# EAGLE library part R-EU-4 (library tecsmith_keyboards)
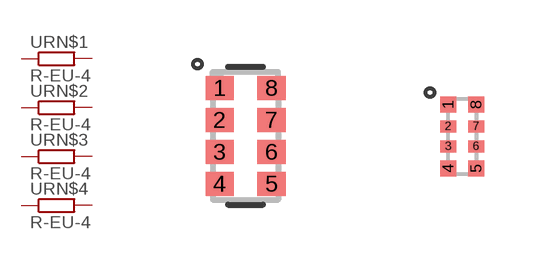
[diagram p7: symbol with the pads of R0603X4; footprints R0603X4, R0402X4]

Designator prefix -; gates RN$1=R-EU RN$2=R-EU RN$3=R-EU RN$4=R-EU

## R-EU-40603  [R0603X4]
1  RN$1:1  pas
2  RN$2:1  pas
3  RN$3:1  pas
4  RN$4:1  pas
5  RN$4:2  pas
6  RN$3:2  pas
7  RN$2:2  pas
8  RN$1:2  pas

## R-EU-40402  [R0402X4]
Pads as for R0603X4

## R-EU-40805  [R0805X4]
Pads as for R0603X4

## R-EU-41206  [R1206X4]
Pads as for R0603X4

## Footprint R0603X4 (pad centres in mm)
smd 0.7 x 0.6: 1 -0.65,1.2; 2 -0.65,0.4; 3 -0.65,-0.4; 4 -0.65,-1.2; 5 0.65,-1.2; 6 0.65,-0.4; 7 0.65,0.4; 8 0.65,1.2

## Footprint R0402X4 (pad centres in mm)
smd 0.4 x 0.4: 1 -0.35,0.8; 4 -0.35,-0.8; 5 0.35,-0.8; 8 0.35,0.8
smd 0.4 x 0.3: 2 -0.35,0.25; 3 -0.35,-0.25; 6 0.35,-0.25; 7 0.35,0.25

## Footprint R0805X4 (pad centres in mm)
smd 1 x 0.65: 1 -1,1.905; 2 -1,0.635; 3 -1,-0.635; 4 -1,-1.905; 5 1,-1.905; 6 1,-0.635; 7 1,0.635; 8 1,1.905

## Footprint R1206X4 (pad centres in mm)
smd 1 x 0.7: 1 -0.85,1.3; 4 -0.85,-1.3; 5 0.85,-1.3; 8 0.85,1.3
smd 1 x 0.5: 2 -0.85,0.4; 3 -0.85,-0.4; 6 0.85,-0.4; 7 0.85,0.4